# EAGLE library part TS5A3160 (library ts5a3160)
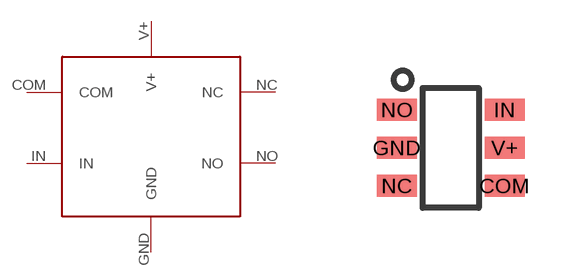
[diagram p0: symbol with the pads of TS5A3160; footprint TS5A3160]

Designator prefix -

## TS5A3160  [TS5A3160]
COM  COM
GND  GND
IN  IN
NC  NC
NO  NO
V+  V+

## Footprint TS5A3160 (pad centres in mm)
smd 1 x 0.55: COM 1.35,-0.95; GND -1.35,0; IN 1.35,0.95; NC -1.35,-0.95; NO -1.35,0.95; V+ 1.35,0